# Altium footprint library ESP12.PcbLib: 1 footprints
Each footprint in its own frame and in the unit in brackets; x right, y up, seen from the top. Pads: shape width x height; smd on the part's side, far side on the other; paste and mask are expansions set on the pad; w line width, h text height; cw(c..) or ccw(c..) is an arc to the next point about the centre after c.
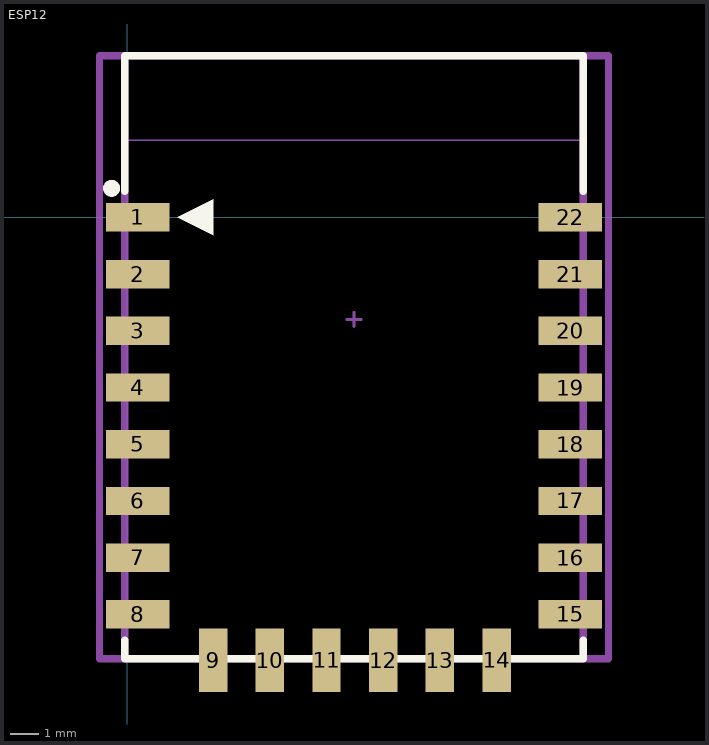
[diagram p0: the footprint, top view; thin cyan lines are the x and y axes]

## ESP12 [mm] "ESP-12 Wi-Fi Mod"
height 3.2
pads (22):
  rect 2.25x1 smd: 1(0.375,0) 2(0.375,-2) 3(0.375,-4) 4(0.375,-6) 5(0.375,-8) 6(0.375,-10) 7(0.375,-12) 8(0.375,-14) 15(15.625,-14) 16(15.625,-12) 17(15.625,-10) 18(15.625,-8) 19(15.625,-6) 20(15.625,-4) 21(15.625,-2) 22(15.625,0)
  rect 1x2.25 smd: 9(3.03,-15.621) 10(5.03,-15.621) 11(7.03,-15.621) 12(9.03,-15.621) 13(11.03,-15.621) 14(13.03,-15.621)
Top Overlay:
  circle w0.3: c-0.55,1.025 r0.15
  region: 1.77,0 3.04,-0.635 3.04,0.635
  lines w0.254: -0.084,-14.916 -0.084,-15.568 16.084,-15.568 16.084,-14.916 ; -0.084,0.916 -0.084,5.7 16.084,5.7 16.084,0.916
Mechanical 13:
  lines w0.051: -0.127,2.727 16.129,2.727 16.129,5.7 -0.127,5.7 -0.127,2.727
  lines w0.254: -0.084,-15.568 -0.084,5.7 16.084,5.7 16.084,-15.568 -0.084,-15.568
  text "3" at 7.874,-0.127 h0.25
Mechanical 15:
  lines w0.1: 7.746,-3.598 8.254,-3.598 ; 8,-3.852 8,-3.344
  lines w0.254: -0.975,-15.568 16.975,-15.568 16.975,5.7 -0.975,5.7 -0.975,-15.568
3D body "ESP_12_E.STEP": height 2.75, standoff 0.04, extent 0.001,-15.491 16.001,8.509